# EAGLE library part MCP45X1 (library gee_s)
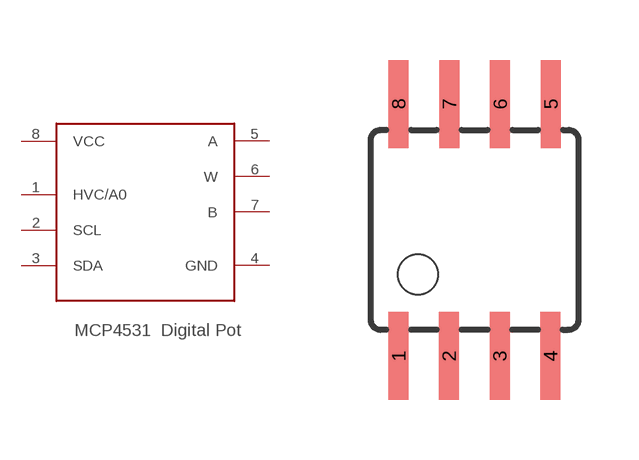
[diagram p32: symbol with the pads of SOIC8; footprint SOIC8]

Designator prefix -

## MCP45X1  [SOIC8]
1  HVC/A0
2  SCL
3  SDA
4  GND
5  A
6  W
7  B
8  VCC

## Footprint SOIC8 (pad centres in mm)
Wide Plastic Gull Wing Small Outline Package
smd 0.5 x 2.2: 1 -1.905,-3.154; 2 -0.645,-3.154; 3 0.625,-3.154; 4 1.895,-3.154; 5 1.905,3.154; 6 0.635,3.154; 7 -0.635,3.154; 8 -1.905,3.154